# Altium footprint library SOT95P230X110-3N.PcbLib: 1 footprints
Each footprint in its own frame and in the unit in brackets; x right, y up, seen from the top. Pads: shape width x height; smd on the part's side, far side on the other; paste and mask are expansions set on the pad; w line width, h text height; cw(c..) or ccw(c..) is an arc to the next point about the centre after c.
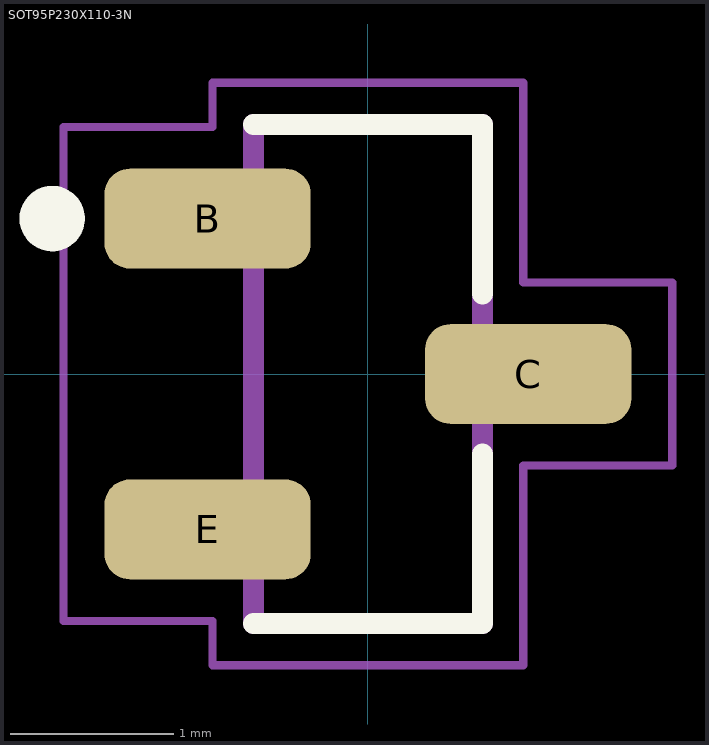
[diagram p0: the footprint, top view; thin cyan lines are the x and y axes]

## SOT95P230X110-3N [mm]
pads (3):
  rrect50% 1.26x0.61 smd: B(-0.98,0.95) C(0.98,0) E(-0.98,-0.95)
Top Overlay:
  circle w0.2: c-1.93,0.95 r0.1
  lines w0.127: -0.7,-1.525 0.7,-1.525 0.7,-0.489 ; -0.7,1.525 0.7,1.525 0.7,0.489
Mechanical 13:
  lines w0.127: -0.7,-1.525 -0.7,1.525 0.7,1.525 0.7,-1.525 -0.7,-1.525
Mechanical 15:
  lines w0.05: -1.86,-1.51 -1.86,1.51 -0.95,1.51 -0.95,1.78 0.95,1.78 0.95,0.56 1.86,0.56 1.86,-0.56 0.95,-0.56 0.95,-1.78 -0.95,-1.78 -0.95,-1.51 -1.86,-1.51